# Altium integrated library SSD1306.IntLib: 1 symbol
Pins are listed as number, name and electrical type; pins without a type are passive.

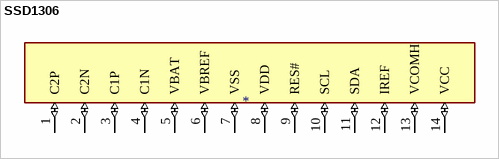
[diagram p0: symbol SSD1306]

## SSD1306
designator ?
SSD1306 OLED 0.9 Display Pmodâ„¢ Platform Evaluation Expansion Board; MF: Digilent, Inc.; SnapEDA_Link: https://www.snapeda.com/parts/SSD1306/Digilent,%20Inc./view-part/3624478/?ref=snap; Package: None; MP: SSD1306; Value: *; Availability: Unavailable; Price: None
footprint SSD1306
pins: 1 C2P (io), 2 C2N (io), 3 C1P (io), 4 C1N (io), 5 VBAT (io), 6 VBREF (io), 7 VSS (io), 8 VDD (io), 9 RES# (io), 10 SCL (io), 11 SDA (io), 12 IREF (io), 13 VCOMH (io), 14 VCC (io)